# EAGLE library part RM_SW_LED_LCD_IF (library PartsForProto)
20Pin インターフェースピン 鉄道模型パワーコントローラー基板用 タクトスイッチ、LED、LCDを外出しにするためのインタフェース
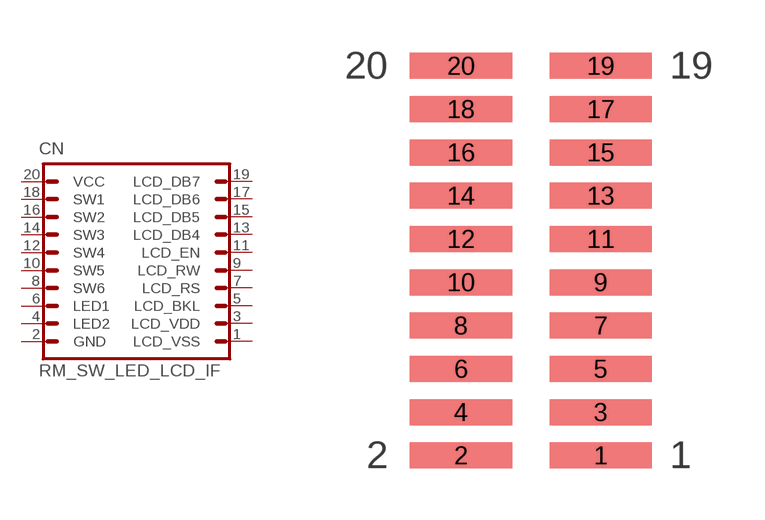
[diagram p17: symbol with the pads of DIL20_RIBBON_CABLE_IF; footprint DIL20_RIBBON_CABLE_IF]

Designator prefix CN

## RM_SW_LED_LCD_IF  [DIL20_RIBBON_CABLE_IF]
1  LCD_VSS  pas
2  GND  pas
3  LCD_VDD  pas
4  LED2
5  LCD_BKL
6  LED1
7  LCD_RS
8  SW6
9  LCD_RW
10  SW5
11  LCD_EN
12  SW4
13  LCD_DB4
14  SW3
15  LCD_DB5
16  SW2
17  LCD_DB6
18  SW1
19  LCD_DB7
20  VCC  pas

## Footprint DIL20_RIBBON_CABLE_IF (pad centres in mm)
PH127-2x10MG ピンヘッダ ２×１０（２０Ｐ）表面実装用 １．２７ｍｍピッチ 取付用パターン
smd 3 x 0.76: 1 5.6,0.38; 2 1.5,0.38; 3 5.6,1.65; 4 1.5,1.65; 5 5.6,2.92; 6 1.5,2.92; 7 5.6,4.19; 8 1.5,4.19; 9 5.6,5.46; 10 1.5,5.46; 11 5.6,6.73; 12 1.5,6.73; 13 5.6,8; 14 1.5,8; 15 5.6,9.27; 16 1.5,9.27; 17 5.6,10.54; 18 1.5,10.54; 19 5.6,11.81; 20 1.5,11.81